# Altium footprint library IC_TXS0102DQMR.PcbLib: 1 footprints
Each footprint in its own frame and in the unit in brackets; x right, y up, seen from the top. Pads: shape width x height; smd on the part's side, far side on the other; paste and mask are expansions set on the pad; w line width, h text height; cw(c..) or ccw(c..) is an arc to the next point about the centre after c.
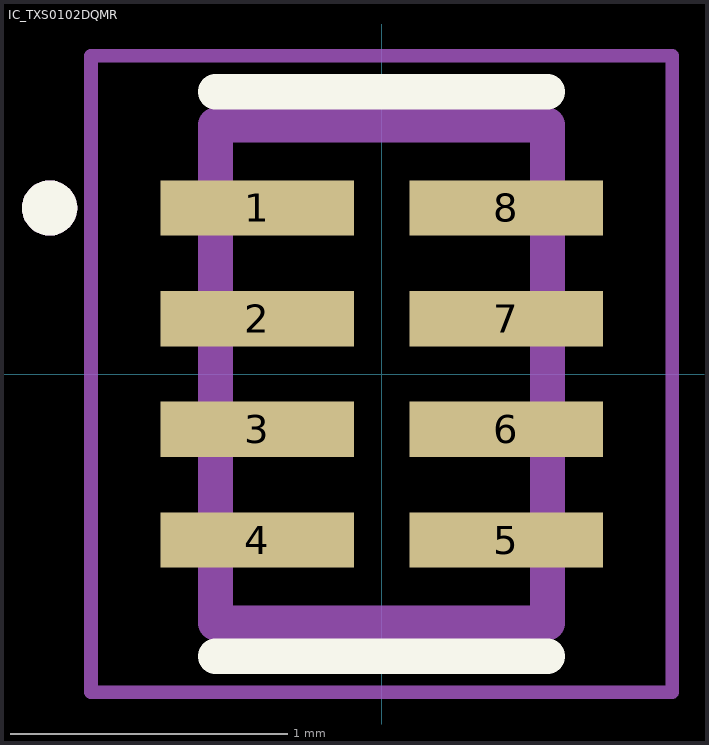
[diagram p0: the footprint, top view; thin cyan lines are the x and y axes]

## IC_TXS0102DQMR [mm]
pads (8):
  rect 0.7x0.2 smd mask+0: 1(-0.45,0.6) 2(-0.45,0.2) 3(-0.45,-0.2) 4(-0.45,-0.6) 5(0.45,-0.6) 6(0.45,-0.2) 7(0.45,0.2) 8(0.45,0.6)
Top Overlay:
  circle w0.1: c-1.2,0.6 r0.05
  lines w0.127: -0.6,-1.02 0.6,-1.02 ; -0.6,1.02 0.6,1.02
Top Solder:
  region: 0.85,-0.75 0.05,-0.75 0.05,-0.45 0.85,-0.45
  region: 0.85,-0.35 0.05,-0.35 0.05,-0.05 0.85,-0.05
  region: 0.85,0.05 0.05,0.05 0.05,0.35 0.85,0.35
  region: 0.85,0.45 0.05,0.45 0.05,0.75 0.85,0.75
  region: -0.05,-0.75 -0.85,-0.75 -0.85,-0.45 -0.05,-0.45
  region: -0.05,-0.35 -0.85,-0.35 -0.85,-0.05 -0.05,-0.05
  region: -0.05,0.05 -0.85,0.05 -0.85,0.35 -0.05,0.35
  region: -0.05,0.45 -0.85,0.45 -0.85,0.75 -0.05,0.75
Mechanical 13:
  circle w0.1: c-1.2,0.6 r0.05
  lines w0.127: -0.6,-0.9 -0.6,0.9 0.6,0.9 0.6,-0.9 -0.6,-0.9
Mechanical 15:
  lines w0.05: -1.05,-1.15 -1.05,1.15 1.05,1.15 1.05,-1.15 -1.05,-1.15
3D body "TXS0102DQMR--3DModel-STEP-56544.STEP": height 0.4, standoff 0, extent -0.6,-0.9 0.6,0.9